# EAGLE library part LSM303 (library MAÑE)
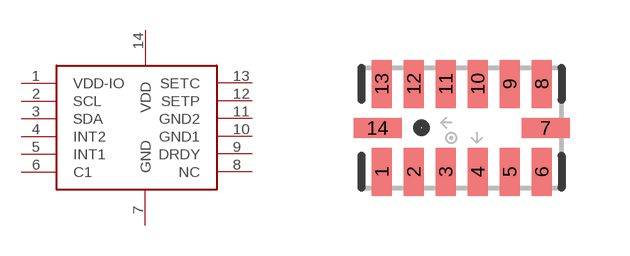
[diagram p8: symbol with the pads of LGA-14; footprint LGA-14]

Designator prefix -

## LSM303  [LGA-14]
1  VDD-IO
2  SCL
3  SDA
4  INT2
5  INT1
6  C1
7  GND
8  NC
9  DRDY
10  GND1
11  GND2
12  SETP
13  SETC
14  VDD

## Footprint LGA-14 (pad centres in mm)
smd 0.5 x 1.2: 1 -2,-1.1; 2 -1.2,-1.1; 3 -0.4,-1.1; 4 0.4,-1.1; 5 1.2,-1.1; 6 2,-1.1; 8 2,1.1; 9 1.2,1.1; 10 0.4,1.1; 11 -0.4,1.1; 12 -1.2,1.1; 13 -2,1.1
smd 1.2 x 0.5: 7 2.1,0; 14 -2.1,0